# Altium schematic symbol library JJM1-12V.SchLib: 1 symbol
Pins are listed as number, name and electrical type; pins without a type are passive.

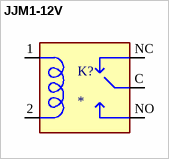
[diagram p0: symbol JJM1-12V]

## JJM1-12V
designator K?
Electromechanical Relay 12VDC 225Ohm 20(NO)/10(NC)A SPDT (( 15.5mm 12mm 13.9mm)) THT Automotive Relay; MF: {'manufacturer': u'Panasonic Electric'}; MP: JJM1-12V; Package: None; Price: None; Value: *; Availability: Unavailable
footprint RELAY_JJM1-12V
pins: 1 C1, 2 C2, C M, NC, NO